# EAGLE library part RFM12 (library RFMxx)
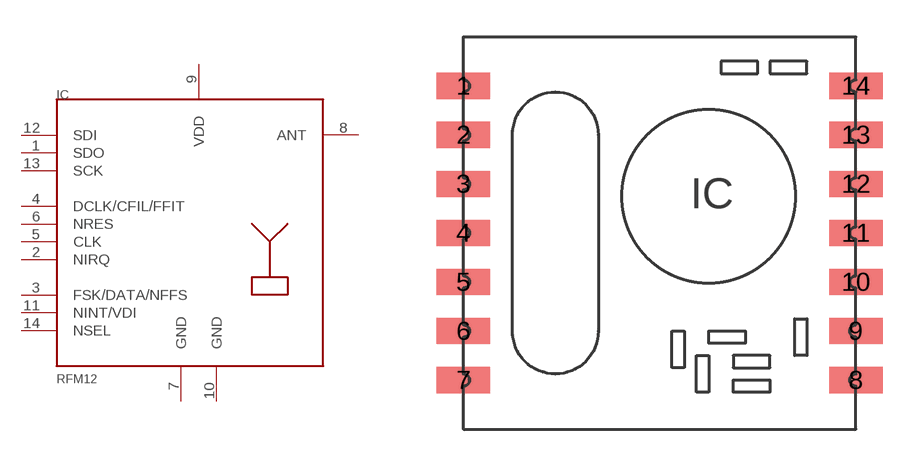
[diagram p0: symbol with the pads of RFM; footprint RFM]

Designator prefix IC

## RFM12  [RFM]
1  SDO
2  NIRQ
3  FSK/DATA/NFFS
4  DCLK/CFIL/FFIT
5  CLK
6  NRES
7  GND  pwr
8  ANT  out
9  VDD  pwr
10  GND  pwr
11  NINT/VDI
12  SDI
13  SCK
14  NSEL

## Footprint RFM (pad centres in mm)
smd 2.184 x 1.067: 1 0,14; 2 0,12; 3 0,10; 4 0,8; 5 0,6; 6 0,4; 7 0,2; 8 16,2; 9 16,4; 10 16,6; 11 16,8; 12 16,10; 13 16,12; 14 16,14